# Altium schematic symbol library Battery Protection.SchLib: 1 symbol
Pins are listed as number, name and electrical type; pins without a type are passive.

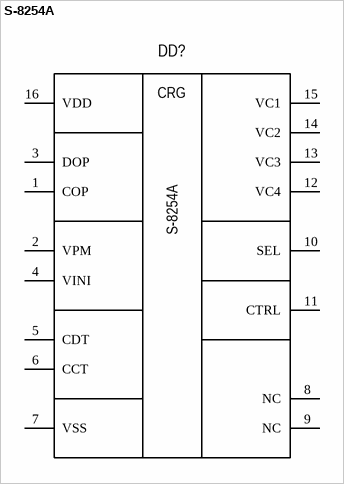
[diagram p0: symbol S-8254A]

## S-8254A
designator DD?
Battery Protection 3-4Cell Li-ion/Li Polymer; Manufacturer: SII Semiconductor Corporation; Group: PMIC - Battery Chargers; Package: TSSOP-16; Part name: S-8254A; Datasheet: http://datasheet.sii-ic.com/en/battery_protection/S8254A_E.pdf
footprint TSSOP-16
pins: 1 COP "Charger input supply voltage", 2 VPM "Charger input supply voltage", 3 DOP "Charger input supply voltage", 4 VINI "Charger input supply voltage", 5 CDT "Charger input supply voltage", 6 CCT "Charger input supply voltage", 7 VSS "Charger input supply voltage", 8 NC "Charger input supply voltage", 9 NC "Charger input supply voltage", 10 SEL "Charger input supply voltage", 11 CTRL "Charger input supply voltage", 12 VC4 "Charger input supply voltage", 13 VC3 "Charger input supply voltage", 14 VC2 "Charger input supply voltage", 15 VC1 "Charger input supply voltage", 16 VDD "Charger input supply voltage"
text: CRG